# Altium footprint library Resistors.PcbLib: 8 footprints
Each footprint in its own frame and in the unit in brackets; x right, y up, seen from the top. Pads: shape width x height; smd on the part's side, far side on the other; paste and mask are expansions set on the pad; w line width, h text height; cw(c..) or ccw(c..) is an arc to the next point about the centre after c.
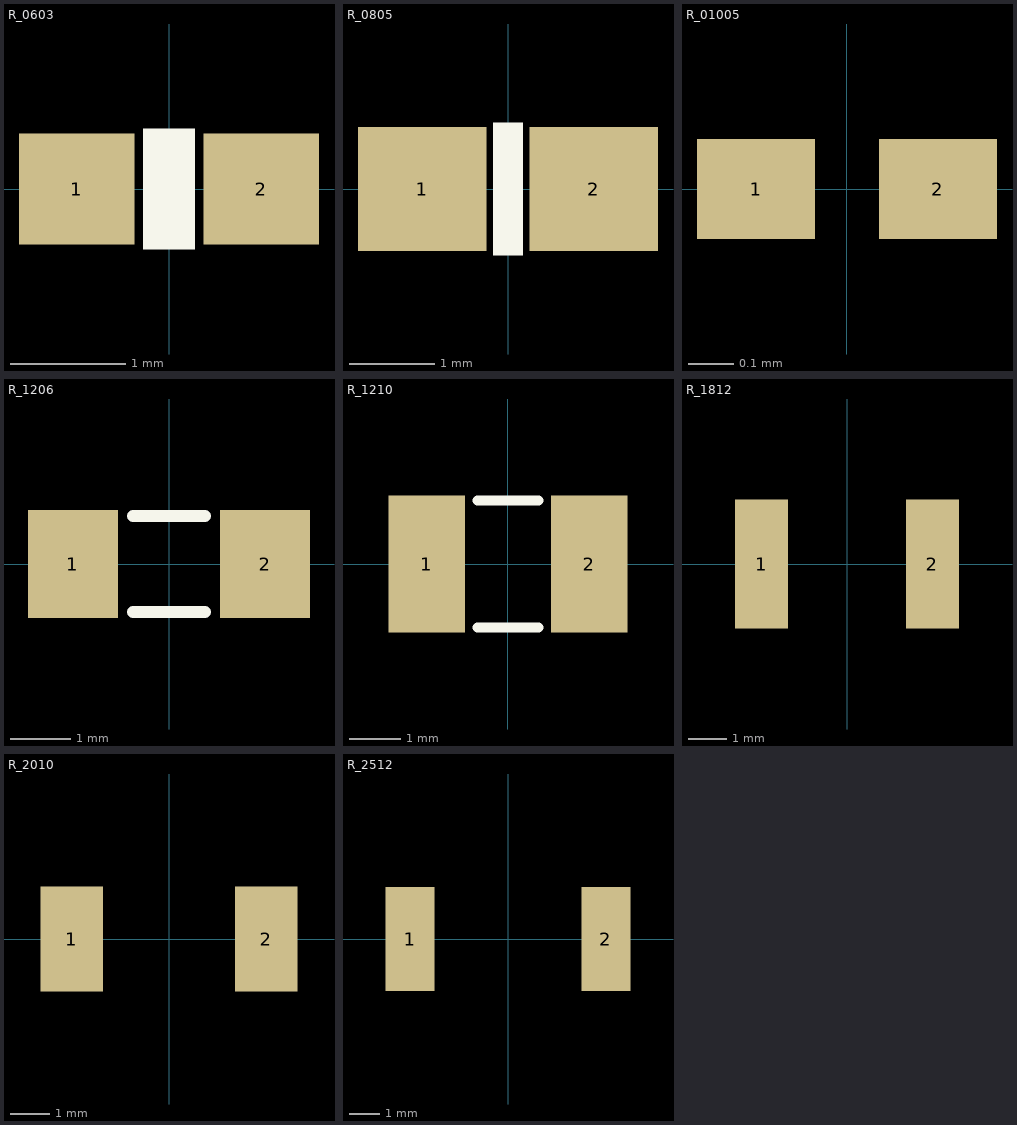
[diagram p0: the footprints below, top view; thin cyan lines are the x and y axes]

## R_0603 [mm] "0603 SMT resistor"
height 0.96
pads (2):
  rect 1x0.96 smd mask+0.064: 1(-0.8,0) 2(0.8,0)
Top Overlay:
  rectangle: -0.225,-0.525 0.225,0.525
3D body "RES0603.stp": height 0.45, standoff 0, extent -0.8,-0.4 0.8,0.4

## R_0805 [mm] "0805 SMT resistor"
height 1.35
pads (2):
  rect 1.5x1.45 smd mask+0.064: 1(-1,0) 2(1,0)
Top Overlay:
  rectangle: -0.175,-0.775 0.175,0.775
3D body "RES0805.stp": height 0.5, standoff 0, extent -1,-0.63 1,0.62

## R_01005 [mm] "01005 SMT resistor"
height 0.15
pads (2):
  rect 0.26x0.22 smd mask+0.064: 1(-0.2,0) 2(0.2,0)
3D body "01005 resistor.stp": height 0.13, standoff 0, extent -0.2,-0.1 0.2,0.1

## R_1206 [mm] "1206 SMT resistor"
height 0.7
pads (2):
  rect 1.5x1.8 smd mask+0.064: 1(-1.6,0) 2(1.6,0)
Top Overlay:
  lines w0.2: -0.6,-0.8 0.6,-0.8 ; -0.6,0.8 0.6,0.8
3D body "1206 resistor.stp": height 0.65, standoff 0, extent -1.6,-0.8 1.6,0.8

## R_1210 [mm] "1210 SMT resistor"
height 0.7
pads (2):
  rect 1.5x2.7 smd mask+0.064: 1(-1.6,0) 2(1.6,0)
Top Overlay:
  lines w0.2: -0.6,-1.25 0.6,-1.25 ; -0.6,1.25 0.6,1.25
3D body "1210 resistor.stp": height 0.65, standoff 0, extent -1.6,-1.25 1.6,1.25

## R_1812 [mm] "1812 SMT resistor"
height 0.7
pads (2):
  rect 1.4x3.4 smd mask+0.064: 1(-2.25,0) 2(2.25,0)
3D body "1812 resistor.stp": height 0.65, standoff 0, extent -2.25,-1.6 2.25,1.6

## R_2010 [mm] "2010 SMT resistor"
height 0.7
pads (2):
  rect 1.6x2.7 smd mask+0.064: 1(-2.5,0) 2(2.5,0)
3D body "2010 resistor.stp": height 0.65, standoff 0, extent -2.5,-1.25 2.5,1.25

## R_2512 [mm] "2512 SMT resistor"
height 0.7
pads (2):
  rect 1.6x3.4 smd mask+0.064: 1(-3.2,0) 2(3.2,0)
3D body "2512 resistor.stp": height 0.65, standoff 0, extent -3.2,-1.6 3.2,1.6